# Altium schematic symbol library Driver.SchLib: 2 symbols
Pins are listed as number, name and electrical type; pins without a type are passive.

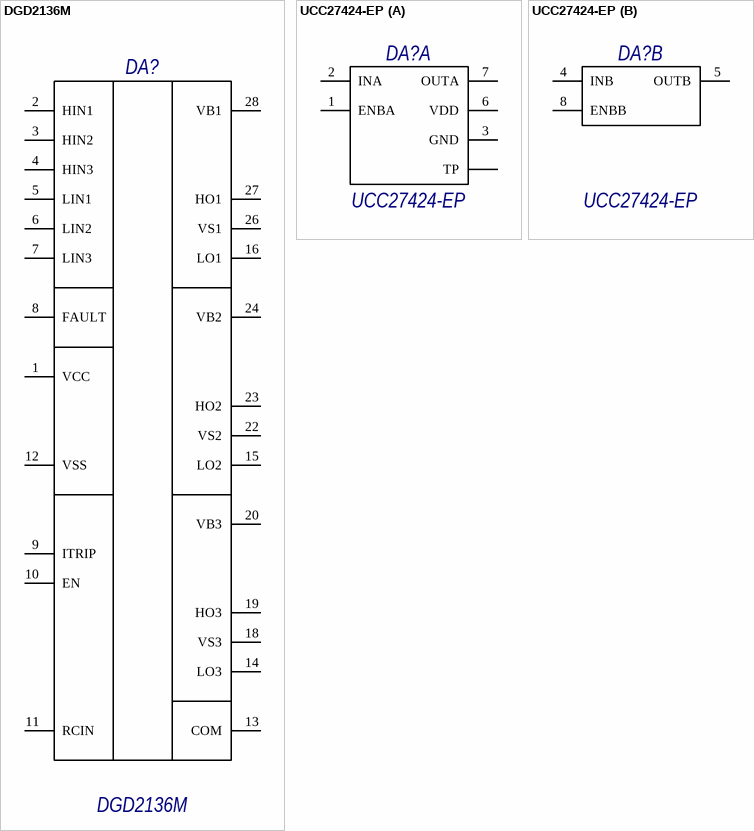
[diagram p0: symbols DGD2136M to UCC27424-EP]

## DGD2136M
designator DA?, comment PartNumber: DGD2136M  (hidden comment: Микросхема DGD2136M фирма "Diodes Incorporated")
Half-Bridge Gate Driver IC Inverting 28-SO; Replacements: FAN73894, STDRIVE601, LF2136B, IRS2336DS,  DGD0636M; GOST: Микросхема DGD2136M фирма "Diodes Incorporated"
footprint SO-28 Wide (18.1x10.65mm H=2.65mm)
pins: 1 VCC, 2 HIN1, 3 HIN2, 4 HIN3, 5 LIN1, 6 LIN2, 7 LIN3, 8 FAULT, 9 ITRIP, 10 EN, 11 RCIN, 12 VSS, 13 COM, 14 LO3, 15 LO2, 16 LO1, 18 VS3, 19 HO3, 20 VB3, 22 VS2, 23 HO2, 24 VB2, 26 VS1, 27 HO1, 28 VB1
1 alternate drawing of the same symbol

## UCC27424-EP
designator DA?, comment PartNumber: UCC27424-EP  (hidden comment: Микросхема UCC27424-EP фирма "Texas Instruments")
DUAL 4-A HIGH-SPEED LOW-SIDE MOSFET DRIVER WITH ENABLE; Pattern: DGN (S-PDSO-G8); Prefix: DA; Manufacturer: Texas Instruments; GOST: Микросхема UCC27424-EP фирма "Texas Instruments"
footprint DGN (S-PDSO-G8) (3.1x3.1mm, HVSSOP-8, MSOP-8 Power PAD, Texas Instruments)
part A pins: 1 ENBA, 2 INA, 3 GND (power), 6 VDD (power), 7 OUTA, TP (power)
part B pins: 4 INB, 5 OUTB, 8 ENBB